# Altium schematic symbol library Transistor_Array.SchLib: 26 symbols
Pins are listed as number, name and electrical type; pins without a type are passive.

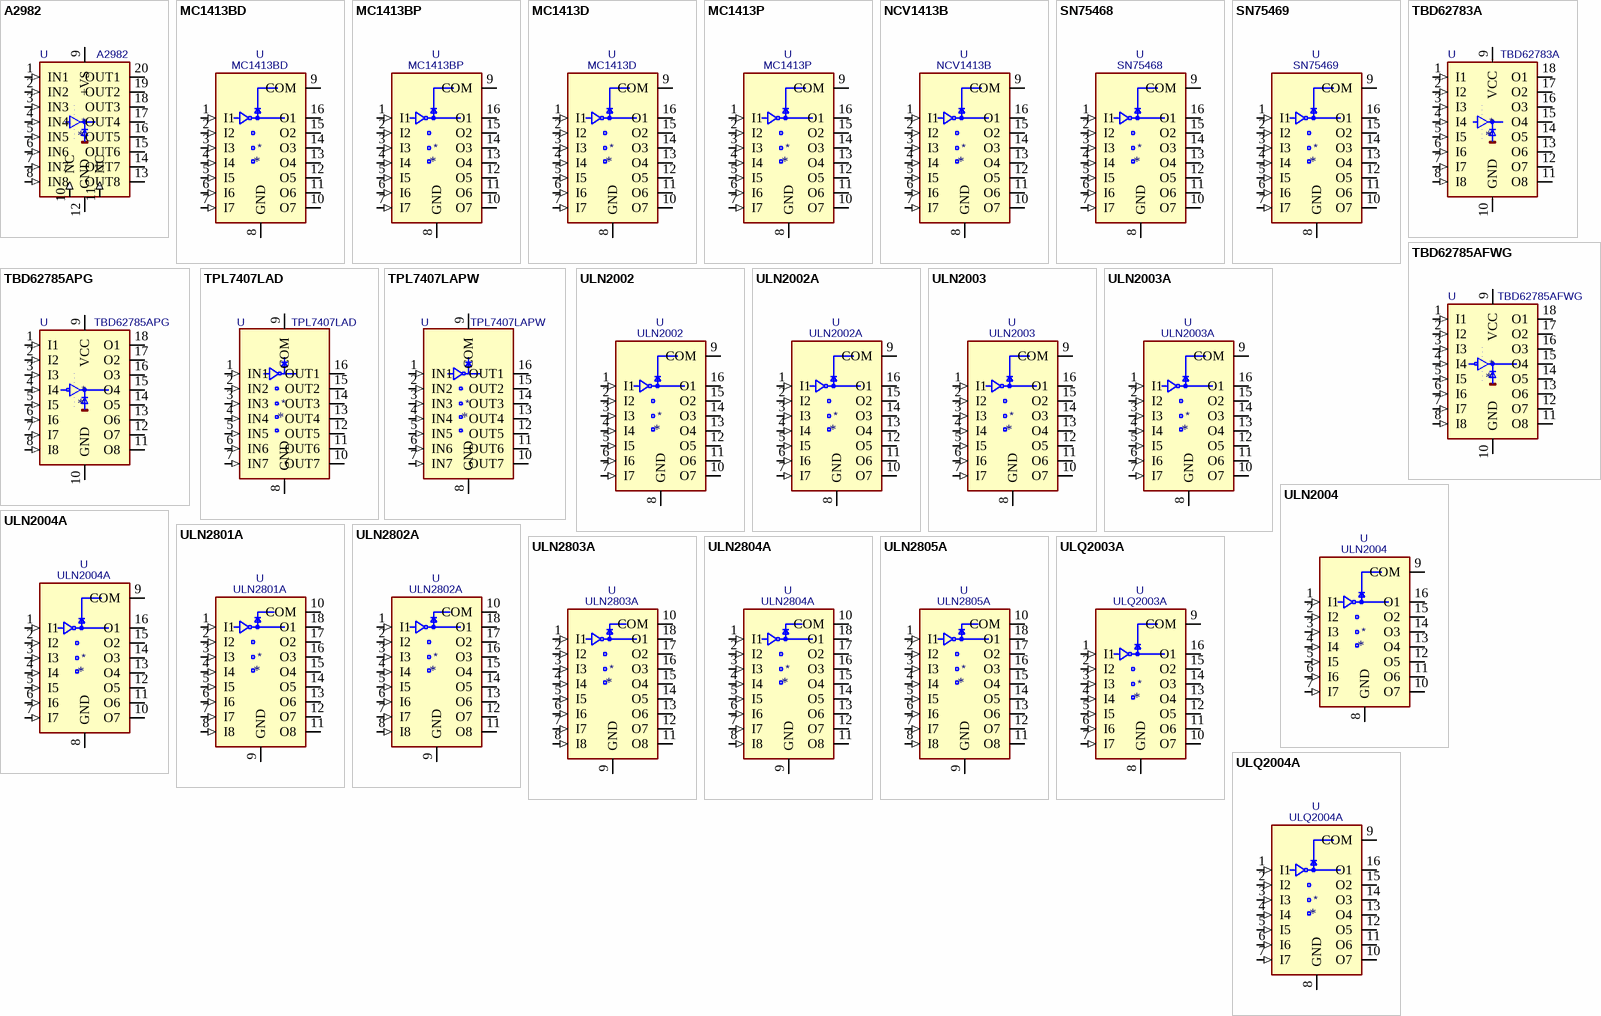
[diagram p0: symbols A2982 to ULQ2004A]

## A2982
designator *  value A2982  Reference: U
8-Channel Source Driver, TTL DTL, PMOS or CMOS compatible, 500mA 50V output, SOIC-20W; ki_keywords: relays solenoids lamps steppers servos LEDs; ki_fp_filters: SOIC*20W*7.5x12.8mm*P1.27mm*; Footprint: Package_SO:SOIC-20W_7.5x12.8mm_P1.27mm; Datasheet: https://www.allegromicro.com/~/media/Files/Datasheets/A2981-2-Datasheet.ashx; Description_: 8-Channel Source Driver, TTL DTL, PMOS or CMOS compatible, 500mA 50V output, SOIC-20W
pins: 1 IN1 (in), 2 IN2 (in), 3 IN3 (in), 4 IN4 (in), 5 IN5 (in), 6 IN6 (in), 7 IN7 (in), 8 IN8 (in), 9 +VS (power), 10 NC (in), 11 NC (in), 12 GND (power), 13 OUT8 (oe), 14 OUT7 (oe), 15 OUT6 (oe), 16 OUT5 (oe), 17 OUT4 (oe), 18 OUT3 (oe), 19 OUT2 (oe), 20 OUT1 (oe)

## MC1413BD
designator *  value MC1413BD  Reference: U
High Voltage, High Current Darlington Transistor Arrays,  TTL/CMOS-compatible, SOIC-16; ki_fp_filters: SOIC*3.9x9.9mm*P1.27mm*; Footprint: Package_SO:SOIC-16_3.9x9.9mm_P1.27mm; Datasheet: http://www.onsemi.com/pub_link/Collateral/MC1413-D.PDF; Description_: High Voltage, High Current Darlington Transistor Arrays,  TTL/CMOS-compatible, SOIC-16; ki_keywords: darlington transistor array
pins: 1 I1 (in), 2 I2 (in), 3 I3 (in), 4 I4 (in), 5 I5 (in), 6 I6 (in), 7 I7 (in), 8 GND (power), 9 COM, 10 O7 (oc), 11 O6 (oc), 12 O5 (oc), 13 O4 (oc), 14 O3 (oc), 15 O2 (oc), 16 O1 (oc)

## MC1413BP
designator *  value MC1413BP  Reference: U
High Voltage, High Current Darlington Transistor Arrays,  TTL/CMOS-compatible, PDIP-16; ki_fp_filters: DIP*W7.62mm*; Footprint: Package_DIP:DIP-16_W7.62mm; Datasheet: http://www.onsemi.com/pub_link/Collateral/MC1413-D.PDF; Description_: High Voltage, High Current Darlington Transistor Arrays,  TTL/CMOS-compatible, PDIP-16; ki_keywords: darlington transistor array
pins: 1 I1 (in), 2 I2 (in), 3 I3 (in), 4 I4 (in), 5 I5 (in), 6 I6 (in), 7 I7 (in), 8 GND (power), 9 COM, 10 O7 (oc), 11 O6 (oc), 12 O5 (oc), 13 O4 (oc), 14 O3 (oc), 15 O2 (oc), 16 O1 (oc)

## MC1413D
designator *  value MC1413D  Reference: U
High Voltage, High Current Darlington Transistor Arrays, SOIC-16; ki_fp_filters: SOIC*3.9x9.9mm*P1.27mm*; Footprint: Package_SO:SOIC-16_3.9x9.9mm_P1.27mm; Datasheet: http://www.onsemi.com/pub_link/Collateral/MC1413-D.PDF; Description_: High Voltage, High Current Darlington Transistor Arrays, SOIC-16; ki_keywords: darlington transistor array
pins: 1 I1 (in), 2 I2 (in), 3 I3 (in), 4 I4 (in), 5 I5 (in), 6 I6 (in), 7 I7 (in), 8 GND (power), 9 COM, 10 O7 (oc), 11 O6 (oc), 12 O5 (oc), 13 O4 (oc), 14 O3 (oc), 15 O2 (oc), 16 O1 (oc)

## MC1413P
designator *  value MC1413P  Reference: U
High Voltage, High Current Darlington Transistor Arrays, PDIP-16; ki_fp_filters: DIP*W7.62mm*; Footprint: Package_DIP:DIP-16_W7.62mm; Datasheet: http://www.onsemi.com/pub_link/Collateral/MC1413-D.PDF; Description_: High Voltage, High Current Darlington Transistor Arrays, PDIP-16; ki_keywords: darlington transistor array
pins: 1 I1 (in), 2 I2 (in), 3 I3 (in), 4 I4 (in), 5 I5 (in), 6 I6 (in), 7 I7 (in), 8 GND (power), 9 COM, 10 O7 (oc), 11 O6 (oc), 12 O5 (oc), 13 O4 (oc), 14 O3 (oc), 15 O2 (oc), 16 O1 (oc)

## NCV1413B
designator *  value NCV1413B  Reference: U
High Voltage, High Current Darlington Transistor Arrays,  TTL/CMOS-compatible, SOIC-16; ki_fp_filters: SOIC*3.9x9.9mm*P1.27mm*; Footprint: Package_SO:SOIC-16_3.9x9.9mm_P1.27mm; Datasheet: http://www.onsemi.com/pub_link/Collateral/MC1413-D.PDF; Description_: High Voltage, High Current Darlington Transistor Arrays,  TTL/CMOS-compatible, SOIC-16; ki_keywords: darlington transistor array
pins: 1 I1 (in), 2 I2 (in), 3 I3 (in), 4 I4 (in), 5 I5 (in), 6 I6 (in), 7 I7 (in), 8 GND (power), 9 COM, 10 O7 (oc), 11 O6 (oc), 12 O5 (oc), 13 O4 (oc), 14 O3 (oc), 15 O2 (oc), 16 O1 (oc)

## SN75468
designator *  value SN75468  Reference: U
Higher Voltage, High Current Darlington Transistor Arrays, 5V CMOS/TTL-compatible input, SOIC16/SOIC16W/DIP16; ki_fp_filters: DIP*W7.62mm* SOIC*3.9x9.9mm*P1.27mm* SOIC*W*5.3x10.2mm*P1.27mm*; Datasheet: http://www.ti.com/lit/ds/slrs023e/slrs023e.pdf; Description_: Higher Voltage, High Current Darlington Transistor Arrays, 5V CMOS/TTL-compatible input, SOIC16/SOIC16W/DIP16; ki_keywords: darlington transistor array
pins: 1 I1 (in), 2 I2 (in), 3 I3 (in), 4 I4 (in), 5 I5 (in), 6 I6 (in), 7 I7 (in), 8 GND (power), 9 COM, 10 O7 (oc), 11 O6 (oc), 12 O5 (oc), 13 O4 (oc), 14 O3 (oc), 15 O2 (oc), 16 O1 (oc)

## SN75469
designator *  value SN75469  Reference: U
Higher Voltage, High Current Darlington Transistor Arrays, 6-15V CMOS/PMOS-compatible input, SOIC16/SOIC16W/DIP16; ki_fp_filters: DIP*W7.62mm* SOIC*3.9x9.9mm*P1.27mm* SOIC*W*5.3x10.2mm*P1.27mm*; Datasheet: http://www.ti.com/lit/ds/slrs023e/slrs023e.pdf; Description_: Higher Voltage, High Current Darlington Transistor Arrays, 6-15V CMOS/PMOS-compatible input, SOIC16/SOIC16W/DIP16; ki_keywords: darlington transistor array
pins: 1 I1 (in), 2 I2 (in), 3 I3 (in), 4 I4 (in), 5 I5 (in), 6 I6 (in), 7 I7 (in), 8 GND (power), 9 COM, 10 O7 (oc), 11 O6 (oc), 12 O5 (oc), 13 O4 (oc), 14 O3 (oc), 15 O2 (oc), 16 O1 (oc)

## TBD62783A
designator *  value TBD62783A  Reference: U
8-Channel Source Type Transistor Array, TTL and CMOS compatible, 500mA, 50V, DIP-18/SOP-18/SSOP-18/SOIC-18W; ki_keywords: relays solenoids lamps steppers servos LEDs; ki_fp_filters: DIP*W7.62mm* SOP*7.0x12.5mm*P1.27mm* SSOP*4.4x6.5mm*P0.65mm* SOIC*7.5x11.6mm*P1.27mm*; Datasheet: http://toshiba.semicon-storage.com/info/docget.jsp?did=30523&prodName=TBD62783APG; Description_: 8-Channel Source Type Transistor Array, TTL and CMOS compatible, 500mA, 50V, DIP-18/SOP-18/SSOP-18/SOIC-18W
pins: 1 I1 (in), 2 I2 (in), 3 I3 (in), 4 I4 (in), 5 I5 (in), 6 I6 (in), 7 I7 (in), 8 I8 (in), 9 VCC (power), 10 GND (power), 11 O8 (oe), 12 O7 (oe), 13 O6 (oe), 14 O5 (oe), 15 O4 (oe), 16 O3 (oe), 17 O2 (oe), 18 O1 (oe)

## TBD62785AFWG
designator *  value TBD62785AFWG  Reference: U
8-Channel Source Type Transistor Array, TTL and CMOS compatible, 500mA, 50V, SOP-18-18W; ki_keywords: relays solenoids lamps steppers servos LEDs; ki_fp_filters: SOP*7.495x11.515mm*P1.27mm*; Footprint: Package_SO:SOP-18_7.495x11.515mm_P1.27mm; Datasheet: https://toshiba.semicon-storage.com/info/TBD62785AFWG_datasheet_en_20170530.pdf?did=58399&prodName=TBD62785AFWG; Description_: 8-Channel Source Type Transistor Array, TTL and CMOS compatible, 500mA, 50V, SOP-18-18W
pins: 1 I1 (in), 2 I2 (in), 3 I3 (in), 4 I4 (in), 5 I5 (in), 6 I6 (in), 7 I7 (in), 8 I8 (in), 9 VCC (power), 10 GND (power), 11 O8 (oe), 12 O7 (oe), 13 O6 (oe), 14 O5 (oe), 15 O4 (oe), 16 O3 (oe), 17 O2 (oe), 18 O1 (oe)

## TBD62785APG
designator *  value TBD62785APG  Reference: U
8-Channel Source Type Transistor Array, TTL and CMOS compatible, 500mA, 50V, DIP-18-18W; ki_keywords: relays solenoids lamps steppers servos LEDs; ki_fp_filters: DIP*W7.62mm*; Footprint: Package_DIP:DIP-18_W7.62mm; Datasheet: https://toshiba.semicon-storage.com/info/TBD62785APG_datasheet_en_20170530.pdf?did=58399&prodName=TBD62785APG; Description_: 8-Channel Source Type Transistor Array, TTL and CMOS compatible, 500mA, 50V, DIP-18-18W
pins: 1 I1 (in), 2 I2 (in), 3 I3 (in), 4 I4 (in), 5 I5 (in), 6 I6 (in), 7 I7 (in), 8 I8 (in), 9 VCC (power), 10 GND (power), 11 O8 (oe), 12 O7 (oe), 13 O6 (oe), 14 O5 (oe), 15 O4 (oe), 16 O3 (oe), 17 O2 (oe), 18 O1 (oe)

## TPL7407LAD
designator *  value TPL7407LAD  Reference: U
7-Channel Low Side Driver, CMOS Improvement of Darlington Array, 30V, SOIC-16; ki_keywords: Relay Driver; ki_fp_filters: SOIC*3.9x9.9mm*P1.27mm*; Footprint: Package_SO:SOIC-16_3.9x9.9mm_P1.27mm; Datasheet: https://www.ti.com/lit/gpn/tpl7407la; Description_: 7-Channel Low Side Driver, CMOS Improvement of Darlington Array, 30V, SOIC-16
pins: 1 IN1 (in), 2 IN2 (in), 3 IN3 (in), 4 IN4 (in), 5 IN5 (in), 6 IN6 (in), 7 IN7 (in), 8 GND (power), 9 COM (power), 10 OUT7 (oc), 11 OUT6 (oc), 12 OUT5 (oc), 13 OUT4 (oc), 14 OUT3 (oc), 15 OUT2 (oc), 16 OUT1 (oc)

## TPL7407LAPW
designator *  value TPL7407LAPW  Reference: U
7-Channel Low Side Driver, CMOS Improvement of Darlington Array, 30V, TSSOP-16; ki_keywords: Relay Driver; ki_fp_filters: TSSOP*4.4x5mm*P0.65mm*; Footprint: Package_SO:TSSOP-16_4.4x5mm_P0.65mm; Datasheet: https://www.ti.com/lit/gpn/tpl7407la; Description_: 7-Channel Low Side Driver, CMOS Improvement of Darlington Array, 30V, TSSOP-16
pins: 1 IN1 (in), 2 IN2 (in), 3 IN3 (in), 4 IN4 (in), 5 IN5 (in), 6 IN6 (in), 7 IN7 (in), 8 GND (power), 9 COM (power), 10 OUT7 (oc), 11 OUT6 (oc), 12 OUT5 (oc), 13 OUT4 (oc), 14 OUT3 (oc), 15 OUT2 (oc), 16 OUT1 (oc)

## ULN2002
designator *  value ULN2002  Reference: U
High Voltage, High Current Darlington Transistor Arrays, SOIC16/SOIC16W/DIP16/TSSOP16; ki_fp_filters: DIP*W7.62mm* SOIC*3.9x9.9mm*P1.27mm* SSOP*4.4x5.2mm*P0.65mm* TSSOP*4.4x5mm*P0.65mm* SOIC*W*5.3x10.2mm*P1.27mm*; Datasheet: http://www.ti.com/lit/ds/symlink/uln2003a.pdf; Description_: High Voltage, High Current Darlington Transistor Arrays, SOIC16/SOIC16W/DIP16/TSSOP16; ki_keywords: darlington transistor array
pins: 1 I1 (in), 2 I2 (in), 3 I3 (in), 4 I4 (in), 5 I5 (in), 6 I6 (in), 7 I7 (in), 8 GND (power), 9 COM, 10 O7 (oc), 11 O6 (oc), 12 O5 (oc), 13 O4 (oc), 14 O3 (oc), 15 O2 (oc), 16 O1 (oc)

## ULN2002A
designator *  value ULN2002A  Reference: U
High Voltage, High Current Darlington Transistor Arrays, SOIC16/SOIC16W/DIP16/TSSOP16; ki_fp_filters: DIP*W7.62mm* SOIC*3.9x9.9mm*P1.27mm* SSOP*4.4x5.2mm*P0.65mm* TSSOP*4.4x5mm*P0.65mm* SOIC*W*5.3x10.2mm*P1.27mm*; Datasheet: http://www.ti.com/lit/ds/symlink/uln2003a.pdf; Description_: High Voltage, High Current Darlington Transistor Arrays, SOIC16/SOIC16W/DIP16/TSSOP16; ki_keywords: darlington transistor array
pins: 1 I1 (in), 2 I2 (in), 3 I3 (in), 4 I4 (in), 5 I5 (in), 6 I6 (in), 7 I7 (in), 8 GND (power), 9 COM, 10 O7 (oc), 11 O6 (oc), 12 O5 (oc), 13 O4 (oc), 14 O3 (oc), 15 O2 (oc), 16 O1 (oc)

## ULN2003
designator *  value ULN2003  Reference: U
High Voltage, High Current Darlington Transistor Arrays, SOIC16/SOIC16W/DIP16/TSSOP16; ki_fp_filters: DIP*W7.62mm* SOIC*3.9x9.9mm*P1.27mm* SSOP*4.4x5.2mm*P0.65mm* TSSOP*4.4x5mm*P0.65mm* SOIC*W*5.3x10.2mm*P1.27mm*; Datasheet: http://www.ti.com/lit/ds/symlink/uln2003a.pdf; Description_: High Voltage, High Current Darlington Transistor Arrays, SOIC16/SOIC16W/DIP16/TSSOP16; ki_keywords: darlington transistor array
pins: 1 I1 (in), 2 I2 (in), 3 I3 (in), 4 I4 (in), 5 I5 (in), 6 I6 (in), 7 I7 (in), 8 GND (power), 9 COM, 10 O7 (oc), 11 O6 (oc), 12 O5 (oc), 13 O4 (oc), 14 O3 (oc), 15 O2 (oc), 16 O1 (oc)

## ULN2003A
designator *  value ULN2003A  Reference: U
High Voltage, High Current Darlington Transistor Arrays, SOIC16/SOIC16W/DIP16/TSSOP16; ki_fp_filters: DIP*W7.62mm* SOIC*3.9x9.9mm*P1.27mm* SSOP*4.4x5.2mm*P0.65mm* TSSOP*4.4x5mm*P0.65mm* SOIC*W*5.3x10.2mm*P1.27mm*; Datasheet: http://www.ti.com/lit/ds/symlink/uln2003a.pdf; Description_: High Voltage, High Current Darlington Transistor Arrays, SOIC16/SOIC16W/DIP16/TSSOP16; ki_keywords: darlington transistor array
pins: 1 I1 (in), 2 I2 (in), 3 I3 (in), 4 I4 (in), 5 I5 (in), 6 I6 (in), 7 I7 (in), 8 GND (power), 9 COM, 10 O7 (oc), 11 O6 (oc), 12 O5 (oc), 13 O4 (oc), 14 O3 (oc), 15 O2 (oc), 16 O1 (oc)

## ULN2004
designator *  value ULN2004  Reference: U
High Voltage, High Current Darlington Transistor Arrays, SOIC16/SOIC16W/DIP16/TSSOP16; ki_fp_filters: DIP*W7.62mm* SOIC*3.9x9.9mm*P1.27mm* SSOP*4.4x5.2mm*P0.65mm* TSSOP*4.4x5mm*P0.65mm* SOIC*W*5.3x10.2mm*P1.27mm*; Datasheet: http://www.ti.com/lit/ds/symlink/uln2003a.pdf; Description_: High Voltage, High Current Darlington Transistor Arrays, SOIC16/SOIC16W/DIP16/TSSOP16; ki_keywords: darlington transistor array
pins: 1 I1 (in), 2 I2 (in), 3 I3 (in), 4 I4 (in), 5 I5 (in), 6 I6 (in), 7 I7 (in), 8 GND (power), 9 COM, 10 O7 (oc), 11 O6 (oc), 12 O5 (oc), 13 O4 (oc), 14 O3 (oc), 15 O2 (oc), 16 O1 (oc)

## ULN2004A
designator *  value ULN2004A  Reference: U
High Voltage, High Current Darlington Transistor Arrays, SOIC16/SOIC16W/DIP16/TSSOP16; ki_fp_filters: DIP*W7.62mm* SOIC*3.9x9.9mm*P1.27mm* SSOP*4.4x5.2mm*P0.65mm* TSSOP*4.4x5mm*P0.65mm* SOIC*W*5.3x10.2mm*P1.27mm*; Datasheet: http://www.ti.com/lit/ds/symlink/uln2003a.pdf; Description_: High Voltage, High Current Darlington Transistor Arrays, SOIC16/SOIC16W/DIP16/TSSOP16; ki_keywords: darlington transistor array
pins: 1 I1 (in), 2 I2 (in), 3 I3 (in), 4 I4 (in), 5 I5 (in), 6 I6 (in), 7 I7 (in), 8 GND (power), 9 COM, 10 O7 (oc), 11 O6 (oc), 12 O5 (oc), 13 O4 (oc), 14 O3 (oc), 15 O2 (oc), 16 O1 (oc)

## ULN2801A
designator *  value ULN2801A  Reference: U
Darlington Transistor Arrays, SOIC18/DIP18; ki_fp_filters: DIP*W7.62mm* SOIC*7.5x11.6mm*P1.27mm*; Datasheet: http://www.promelec.ru/pdf/1536.pdf; Description_: Darlington Transistor Arrays, SOIC18/DIP18; ki_keywords: darlington transistor array
pins: 1 I1 (in), 2 I2 (in), 3 I3 (in), 4 I4 (in), 5 I5 (in), 6 I6 (in), 7 I7 (in), 8 I8 (in), 9 GND (power), 10 COM, 11 O8 (oc), 12 O7 (oc), 13 O6 (oc), 14 O5 (oc), 15 O4 (oc), 16 O3 (oc), 17 O2 (oc), 18 O1 (oc)

## ULN2802A
designator *  value ULN2802A  Reference: U
Darlington Transistor Arrays, SOIC18/DIP18; ki_fp_filters: DIP*W7.62mm* SOIC*7.5x11.6mm*P1.27mm*; Datasheet: http://www.promelec.ru/pdf/1536.pdf; Description_: Darlington Transistor Arrays, SOIC18/DIP18; ki_keywords: darlington transistor array
pins: 1 I1 (in), 2 I2 (in), 3 I3 (in), 4 I4 (in), 5 I5 (in), 6 I6 (in), 7 I7 (in), 8 I8 (in), 9 GND (power), 10 COM, 11 O8 (oc), 12 O7 (oc), 13 O6 (oc), 14 O5 (oc), 15 O4 (oc), 16 O3 (oc), 17 O2 (oc), 18 O1 (oc)

## ULN2803A
designator *  value ULN2803A  Reference: U
Darlington Transistor Arrays, SOIC18/DIP18; ki_fp_filters: DIP*W7.62mm* SOIC*7.5x11.6mm*P1.27mm*; Datasheet: http://www.ti.com/lit/ds/symlink/uln2803a.pdf; Description_: Darlington Transistor Arrays, SOIC18/DIP18; ki_keywords: Darlington transistor array
pins: 1 I1 (in), 2 I2 (in), 3 I3 (in), 4 I4 (in), 5 I5 (in), 6 I6 (in), 7 I7 (in), 8 I8 (in), 9 GND (power), 10 COM, 11 O8 (oc), 12 O7 (oc), 13 O6 (oc), 14 O5 (oc), 15 O4 (oc), 16 O3 (oc), 17 O2 (oc), 18 O1 (oc)

## ULN2804A
designator *  value ULN2804A  Reference: U
Darlington Transistor Arrays, SOIC18/DIP18; ki_fp_filters: DIP*W7.62mm* SOIC*7.5x11.6mm*P1.27mm*; Datasheet: http://www.promelec.ru/pdf/1536.pdf; Description_: Darlington Transistor Arrays, SOIC18/DIP18; ki_keywords: darlington transistor array
pins: 1 I1 (in), 2 I2 (in), 3 I3 (in), 4 I4 (in), 5 I5 (in), 6 I6 (in), 7 I7 (in), 8 I8 (in), 9 GND (power), 10 COM, 11 O8 (oc), 12 O7 (oc), 13 O6 (oc), 14 O5 (oc), 15 O4 (oc), 16 O3 (oc), 17 O2 (oc), 18 O1 (oc)

## ULN2805A
designator *  value ULN2805A  Reference: U
Darlington Transistor Arrays, SOIC18/DIP18; ki_fp_filters: DIP*W7.62mm* SOIC*7.5x11.6mm*P1.27mm*; Datasheet: http://www.promelec.ru/pdf/1536.pdf; Description_: Darlington Transistor Arrays, SOIC18/DIP18; ki_keywords: darlington transistor array
pins: 1 I1 (in), 2 I2 (in), 3 I3 (in), 4 I4 (in), 5 I5 (in), 6 I6 (in), 7 I7 (in), 8 I8 (in), 9 GND (power), 10 COM, 11 O8 (oc), 12 O7 (oc), 13 O6 (oc), 14 O5 (oc), 15 O4 (oc), 16 O3 (oc), 17 O2 (oc), 18 O1 (oc)

## ULQ2003A
designator *  value ULQ2003A  Reference: U
High Voltage, High Current Darlington Transistor Arrays, SOIC16W/TSSOP16; ki_fp_filters: DIP*W7.62mm* SOIC*3.9x9.9mm*P1.27mm* SSOP*4.4x5.2mm*P0.65mm* TSSOP*4.4x5mm*P0.65mm* SOIC*W*5.3x10.2mm*P1.27mm*; Datasheet: http://www.ti.com/lit/ds/symlink/uln2003a.pdf; Description_: High Voltage, High Current Darlington Transistor Arrays, SOIC16W/TSSOP16; ki_keywords: darlington transistor array
pins: 1 I1 (in), 2 I2 (in), 3 I3 (in), 4 I4 (in), 5 I5 (in), 6 I6 (in), 7 I7 (in), 8 GND (power), 9 COM, 10 O7 (oc), 11 O6 (oc), 12 O5 (oc), 13 O4 (oc), 14 O3 (oc), 15 O2 (oc), 16 O1 (oc)

## ULQ2004A
designator *  value ULQ2004A  Reference: U
High Voltage, High Current Darlington Transistor Arrays, SOIC16W/TSSOP16; ki_fp_filters: DIP*W7.62mm* SOIC*3.9x9.9mm*P1.27mm* SSOP*4.4x5.2mm*P0.65mm* TSSOP*4.4x5mm*P0.65mm* SOIC*W*5.3x10.2mm*P1.27mm*; Datasheet: http://www.ti.com/lit/ds/symlink/uln2003a.pdf; Description_: High Voltage, High Current Darlington Transistor Arrays, SOIC16W/TSSOP16; ki_keywords: darlington transistor array
pins: 1 I1 (in), 2 I2 (in), 3 I3 (in), 4 I4 (in), 5 I5 (in), 6 I6 (in), 7 I7 (in), 8 GND (power), 9 COM, 10 O7 (oc), 11 O6 (oc), 12 O5 (oc), 13 O4 (oc), 14 O3 (oc), 15 O2 (oc), 16 O1 (oc)